# Altium footprint library ESP32.PcbLib: 14 footprints
Each footprint in its own frame and in the unit in brackets; x right, y up, seen from the top. Pads: shape width x height; smd on the part's side, far side on the other; paste and mask are expansions set on the pad; w line width, h text height; cw(c..) or ccw(c..) is an arc to the next point about the centre after c.
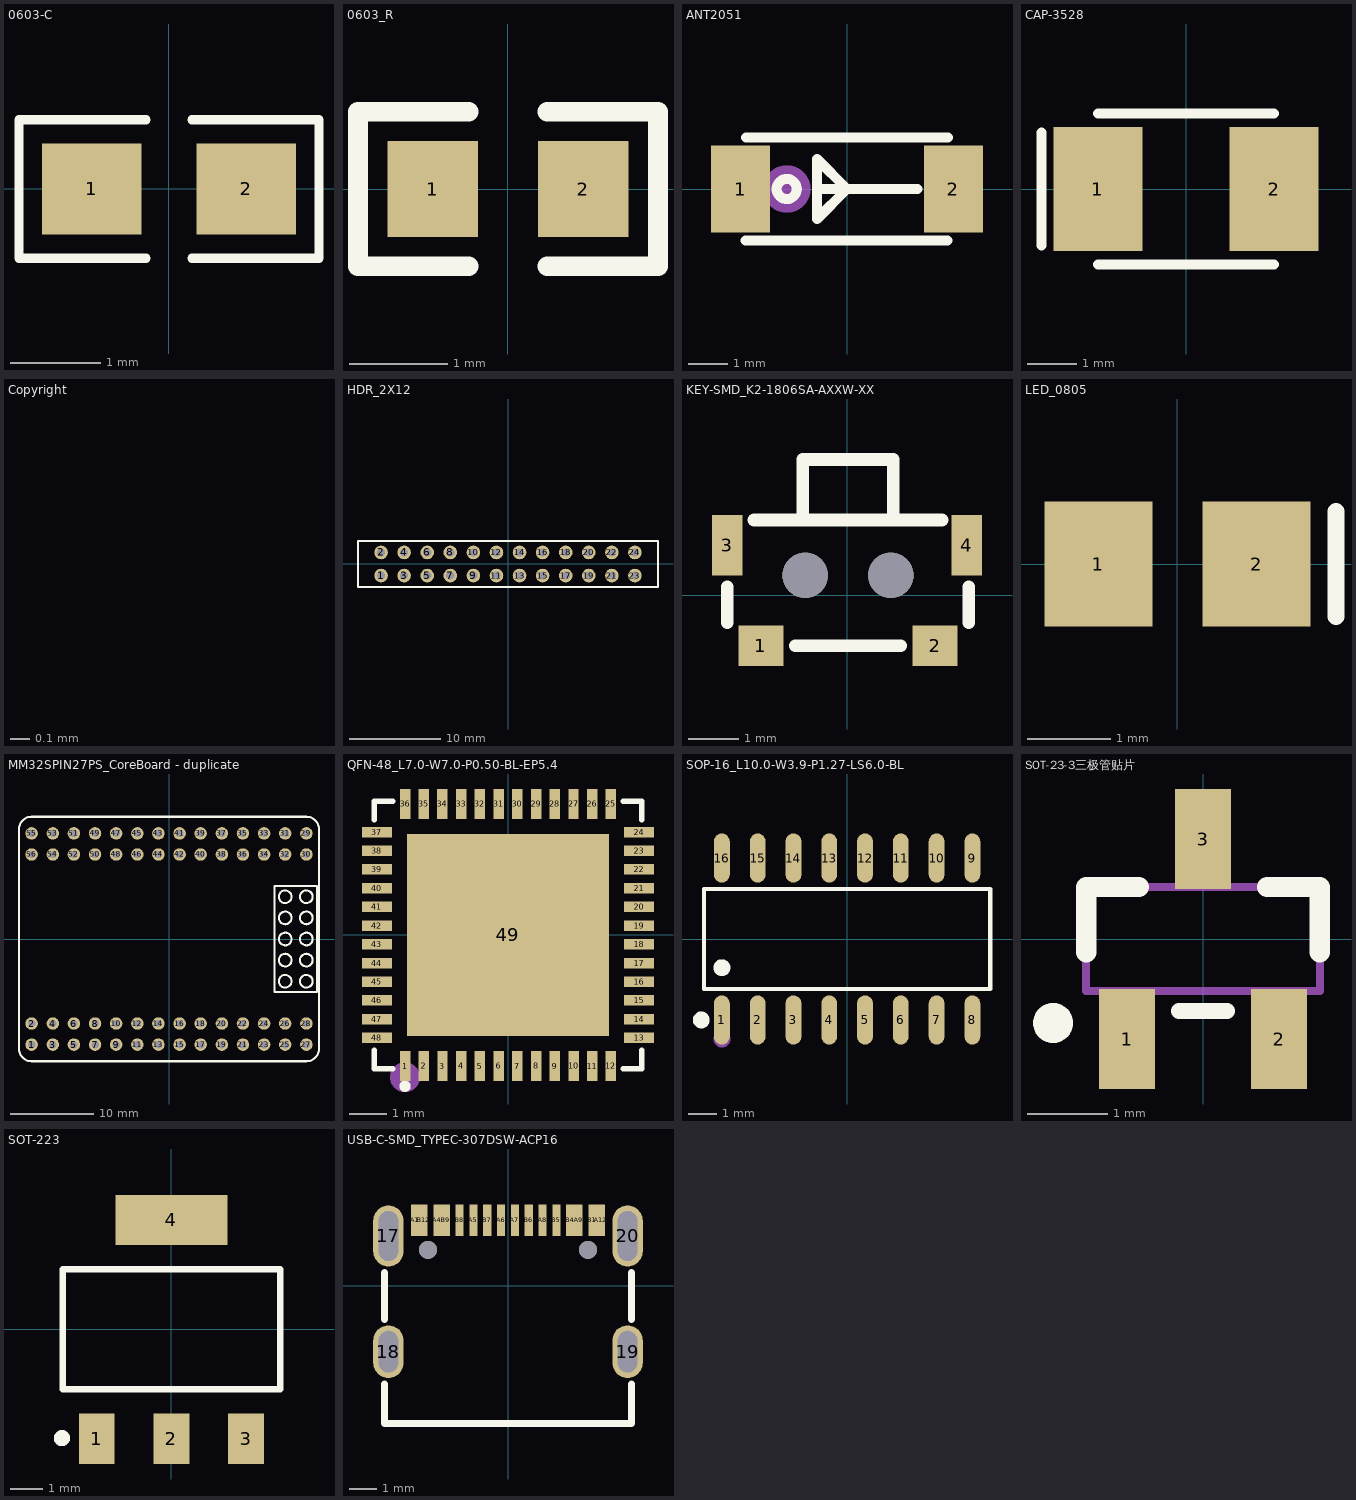
[diagram p0: the footprints below, top view; thin cyan lines are the x and y axes]

## 0603-C [mm] "贴片带丝印"
height 0.6
pads (2):
  rect 1.1x1 smd: 1(-0.85,0) 2(0.85,0)
Top Overlay:
  lines w0.1: -0.254,-0.762 -1.651,-0.762 -1.651,0.762 -0.254,0.762 ; 0.254,-0.762 1.651,-0.762 1.651,0.762 0.254,0.762
3D body: height 1, standoff 0, extent -1.143,-0.381 1.143,0.381

## 0603_R [mm]
pads (2):
  rect 0.93x0.98 smd: 1(-0.77,0) 2(0.77,0)
Top Overlay:
  lines w0.2: -0.4,-0.79 -1.535,-0.79 -1.535,0.79 -0.4,0.79 ; 0.4,-0.79 1.535,-0.79 1.535,0.79 0.4,0.79
3D body "User Library-RES_1609-0603.STEP": height 0.56, standoff 0, extent -0.85,-0.4 0.85,0.4

## ANT2051 [mm]
pads (2):
  rect 1.5x2.2 smd: 1(-2.69,0) 2(2.69,0)
Top Overlay:
  circle w0.254: c-1.524,0 r0.254
  lines w0.254: -2.56,-1.3 2.539,-1.3 ; -2.55,1.3 2.55,1.3 ; -0.762,0 1.778,0 ; -0.762,-0.762 -0.762,0.762 0,0 -0.762,-0.762
Mechanical 15:
  circle w0.6: c-1.524,0 r0.3

## CAP-3528 [mm] "钽电容"
height 3
pads (2):
  rect 1.8x2.5 smd: 1(-1.778,0) 2(1.778,0)
Top Overlay:
  lines w0.2: -2.921,-1.143 -2.921,1.143 ; -1.778,1.524 1.778,1.524 ; -1.775,-1.524 1.778,-1.524
3D body: height 1, standoff 0, extent -1.905,-1.397 1.905,1.397
3D body: height 1.1, standoff 0, extent 1.524,-0.953 1.778,0.953

## Copyright [mm]
Top Overlay:
  text "Designed By Tenire" at 0.254,0.762 h1.52

## HDR_2X12 [mm] "2X12 排座"
height 0.508
pads (24):
  round 1.5 hole 0.9: 1(-13.97,-1.27) 2(-13.97,1.27) 3(-11.43,-1.27) 4(-11.43,1.27) 5(-8.89,-1.27) 6(-8.89,1.27) 7(-6.35,-1.27) 8(-6.35,1.27) 9(-3.81,-1.27) 10(-3.81,1.27) 11(-1.27,-1.27) 12(-1.27,1.27) 13(1.27,-1.27) 14(1.27,1.27) 15(3.81,-1.27) 16(3.81,1.27) 17(6.35,-1.27) 18(6.35,1.27) 19(8.89,-1.27) 20(8.89,1.27) 21(11.43,-1.27) 22(11.43,1.27) 23(13.97,-1.27) 24(13.97,1.27)
Top Overlay:
  lines w0.254: -16.51,-2.54 -16.51,2.54 16.51,2.54 16.51,-2.54 -16.51,-2.54

## KEY-SMD_K2-1806SA-AXXW-XX [mm]
pads (6):
  rect 0.9x0.8 smd: 1(-1.71,-1) 2(1.75,-1)
  rect 0.6x1.2 smd: 3(-2.38,1) 4(2.38,1)
  round 0.9 hole 0.9 unplated: ""(-0.831,0.4) ""(0.871,0.4)
Top Overlay:
  lines w0.254: -2.38,-0.535 -2.38,0.169 ; -1.029,-1.001 1.069,-1.001 ; 1.889,1.5 0.92,1.5 ; 2.42,-0.535 2.42,0.169 ; -0.88,1.5 -0.88,2.7 0.92,2.7 0.92,1.5 ; -0.88,1.5 -1.849,1.5 -0.88,1.5 ; -0.88,1.5 0.92,1.5

## LED_0805 [mm] "贴片二极管"
height 1.1
pads (2):
  rect 1.3x1.5 smd: 1(-0.95,0) 2(0.95,0)
Top Overlay:
  lines w0.2: 1.905,-0.635 1.905,0.635

## MM32SPIN27PS_CoreBoard - duplicate [mm] "逐飞科技MM32SPIN27PS核心板"
pads (56):
  round 1.5 hole 0.9: 1(-16.51,-12.7) 2(-16.51,-10.16) 3(-13.97,-12.7) 4(-13.97,-10.16) 5(-11.43,-12.7) 6(-11.43,-10.16) 7(-8.89,-12.7) 8(-8.89,-10.16) 9(-6.35,-12.7) 10(-6.35,-10.16) 11(-3.81,-12.7) 12(-3.81,-10.16) 13(-1.27,-12.7) 14(-1.27,-10.16) 15(1.27,-12.7) 16(1.27,-10.16) 17(3.81,-12.7) 18(3.81,-10.16) 19(6.35,-12.7) 20(6.35,-10.16) 21(8.89,-12.7) 22(8.89,-10.16) 23(11.43,-12.7) 24(11.43,-10.16) 25(13.97,-12.7) 26(13.97,-10.16) 27(16.51,-12.7) 28(16.51,-10.16) 29(16.51,12.7) 30(16.51,10.16) 31(13.97,12.7) 32(13.97,10.16) 33(11.43,12.7) 34(11.43,10.16) 35(8.89,12.7) 36(8.89,10.16) 37(6.35,12.7) 38(6.35,10.16) 39(3.81,12.7) 40(3.81,10.16) 41(1.27,12.7) 42(1.27,10.16) 43(-1.27,12.7) 44(-1.27,10.16) 45(-3.81,12.7) 46(-3.81,10.16) 47(-6.35,12.7) 48(-6.35,10.16) 49(-8.89,12.7) 50(-8.89,10.16) 51(-11.43,12.7) 52(-11.43,10.16) 53(-13.97,12.7) 54(-13.97,10.16) 55(-16.51,12.7) 56(-16.51,10.16)
Top Overlay:
  circle w0.254: c13.97,2.54 r0.762
  circle w0.254: c13.97,5.08 r0.762
  circle w0.254: c16.51,5.08 r0.762
  circle w0.254: c16.51,2.54 r0.762
  circle w0.254: c16.51,0 r0.762
  circle w0.254: c13.97,0 r0.762
  circle w0.254: c16.51,-2.54 r0.762
  circle w0.254: c13.97,-2.54 r0.762
  circle w0.254: c16.51,-5.08 r0.762
  circle w0.254: c13.97,-5.08 r0.762
  lines w0.254: -18.034,-13.192 ccw(c-16.526,-13.192) -16.526,-14.7 16.526,-14.7 ccw(c16.526,-13.192) 18.034,-13.192 18.034,13.192 ccw(c16.526,13.192) 16.526,14.7 -16.526,14.7 ccw(c-16.526,13.192) -18.034,13.192 -18.034,-13.192 ; 12.7,-6.35 12.7,6.35 17.78,6.35 17.78,-6.35 12.7,-6.35

## QFN-48_L7.0-W7.0-P0.50-BL-EP5.4 [mm]
pads (49):
  rect 0.28x0.8 smd: 1(-2.75,-3.5) 2(-2.25,-3.5) 3(-1.75,-3.5) 4(-1.25,-3.5) 5(-0.75,-3.5) 6(-0.25,-3.5) 7(0.25,-3.5) 8(0.75,-3.5) 9(1.25,-3.5) 10(1.75,-3.5) 11(2.25,-3.5) 12(2.75,-3.5) 25(2.75,3.5) 26(2.25,3.5) 27(1.75,3.5) 28(1.25,3.5) 29(0.75,3.5) 30(0.25,3.5) 31(-0.25,3.5) 32(-0.75,3.5) 33(-1.25,3.5) 34(-1.75,3.5) 35(-2.25,3.5) 36(-2.75,3.5)
  rect 0.8x0.28 smd: 13(3.5,-2.75) 14(3.5,-2.25) 15(3.5,-1.75) 16(3.5,-1.25) 17(3.5,-0.75) 18(3.5,-0.25) 19(3.5,0.25) 20(3.5,0.75) 21(3.5,1.25) 22(3.5,1.75) 23(3.5,2.25) 24(3.5,2.75) 37(-3.5,2.75) 38(-3.5,2.25) 39(-3.5,1.75) 40(-3.5,1.25) 41(-3.5,0.75) 42(-3.5,0.25) 43(-3.5,-0.25) 44(-3.5,-0.75) 45(-3.5,-1.25) 46(-3.5,-1.75) 47(-3.5,-2.25) 48(-3.5,-2.75)
  rect 5.4x5.4 smd: 49(0,0)
Top Overlay:
  circle w0.15: c-2.75,-4.04 r0.075
  lines w0.152: -3.576,-3.08 -3.576,-3.576 -3.081,-3.576 ; -3.576,3.08 -3.576,3.576 -3.081,3.576 ; 3.08,-3.576 3.576,-3.576 3.576,-3.08 ; 3.08,3.576 3.576,3.576 3.576,3.08
Mechanical 15:
  circle w0.4: c-2.75,-3.8 r0.2

## SOP-16_L10.0-W3.9-P1.27-LS6.0-BL [mm]
pads (16):
  oval 0.56x1.745 smd: 1(-4.445,-2.873) 2(-3.175,-2.873) 3(-1.905,-2.873) 4(-0.635,-2.873) 5(0.635,-2.873) 6(1.905,-2.873) 7(3.175,-2.873) 8(4.445,-2.873) 9(4.445,2.873) 10(3.175,2.873) 11(1.905,2.873) 12(0.635,2.873) 13(-0.635,2.873) 14(-1.905,2.873) 15(-3.175,2.873) 16(-4.445,2.873)
Top Overlay:
  circle w0.3: c-5.177,-2.872 r0.15
  circle w0.3: c-4.445,-1.019 r0.15
  lines w0.152: -5.076,-1.771 5.076,-1.771 5.076,1.771 -5.076,1.771 -5.076,-1.771
Mechanical 15:
  circle w0.3: c-4.445,-3.55 r0.15

## SOT-23-3三极管贴片 [mm] "FMMT618"
pads (3):
  rect 0.7x1.25 smd: 1(-0.95,-1.25) 2(0.95,-1.25) 3(0,1.25)
Top Overlay:
  circle w0.25: c-1.875,-1.05 r0.125
  lines w0.2: -0.3,-0.9 0.3,-0.9
  lines w0.254: -1.46,-0.165 -1.46,0.65 -0.8,0.65 ; 1.46,-0.165 1.46,0.65 ; 0.8,0.65 1.46,0.65 ; 0.8,0.65 1.46,0.65 ; 0.8,0.65 1.46,0.65
Mechanical 13:
  lines w0.1: -1.46,-0.65 1.46,-0.65 ; -1.46,-0.65 -1.46,0.65 ; -1.46,-0.65 -1.46,0.65 ; -1.46,-0.65 1.46,-0.65 ; -1.46,-0.65 -1.46,0.65 ; -1.46,-0.65 1.46,-0.65 ; -1.46,0.65 1.46,0.65 ; -1.46,0.65 1.46,0.65 ; -1.46,0.65 1.46,0.65 ; 1.46,-0.65 1.46,0.65 ; 1.46,-0.65 1.46,0.65 ; 1.46,-0.65 1.46,0.65
3D body "SOT-23.step": height 1.3, standoff 0, extent -1.5,-1.5 1.5,1.5

## SOT-223 [mm]
height 1.8
pads (4):
  rect 1.1x1.55 smd: 1(-2.3,-3.375) 2(0,-3.375) 3(2.3,-3.375)
  rect 3.45x1.55 smd: 4(0,3.375)
Top Overlay:
  circle w0.25: c-3.376,-3.353 r0.125
  lines w0.2: -3.35,-1.85 3.35,-1.85 3.35,1.85 -3.35,1.85 -3.35,-1.85
3D body: height 0.3, standoff 0, extent 1.905,-3.937 2.794,-2.032
3D body: height 0.3, standoff 0, extent -0.508,-3.937 0.381,-2.032
3D body: height 0.3, standoff 0, extent -2.794,-3.937 -1.905,-2.032
3D body: height 0.3, standoff 0, extent -1.651,2.159 1.651,3.429
3D body: height 0.8, standoff 0, extent -3.302,-2.032 3.302,2.159

## USB-C-SMD_TYPEC-307DSW-ACP16 [mm]
pads (22):
  oval 1.1x2.2 hole 0.7 slot 1.8 at 90 deg: 17(-4.32,1.808) 20(4.32,1.808)
  oval 1.1x1.9 hole 0.7 slot 1.5 at 90 deg: 18(-4.32,-2.373) 19(4.32,-2.373)
  rect 0.3x1.15 smd: A1(-3.35,2.373) A4(-2.55,2.373) A5(-1.25,2.373) A6(-0.25,2.373) A7(0.25,2.373) A8(1.25,2.373) A9(2.55,2.372) A12(3.35,2.373) B1(3.05,2.373) B4(2.25,2.372) B5(1.75,2.373) B6(0.75,2.373) B7(-0.75,2.373) B8(-1.75,2.373) B9(-2.25,2.373) B12(-3.05,2.373)
  round 0.65 hole 0.65 unplated: ""(-2.89,1.308) ""(2.89,1.308)
Top Overlay:
  lines w0.254: -4.47,-3.539 -4.47,-4.973 4.47,-4.973 4.47,-3.539 ; -4.47,-1.206 -4.47,0.491 ; 4.47,-1.206 4.47,0.491